# Altium schematic symbol library ConnectorsSymbol.SchLib: 19 symbols
Pins are listed as number, name and electrical type; pins without a type are passive.

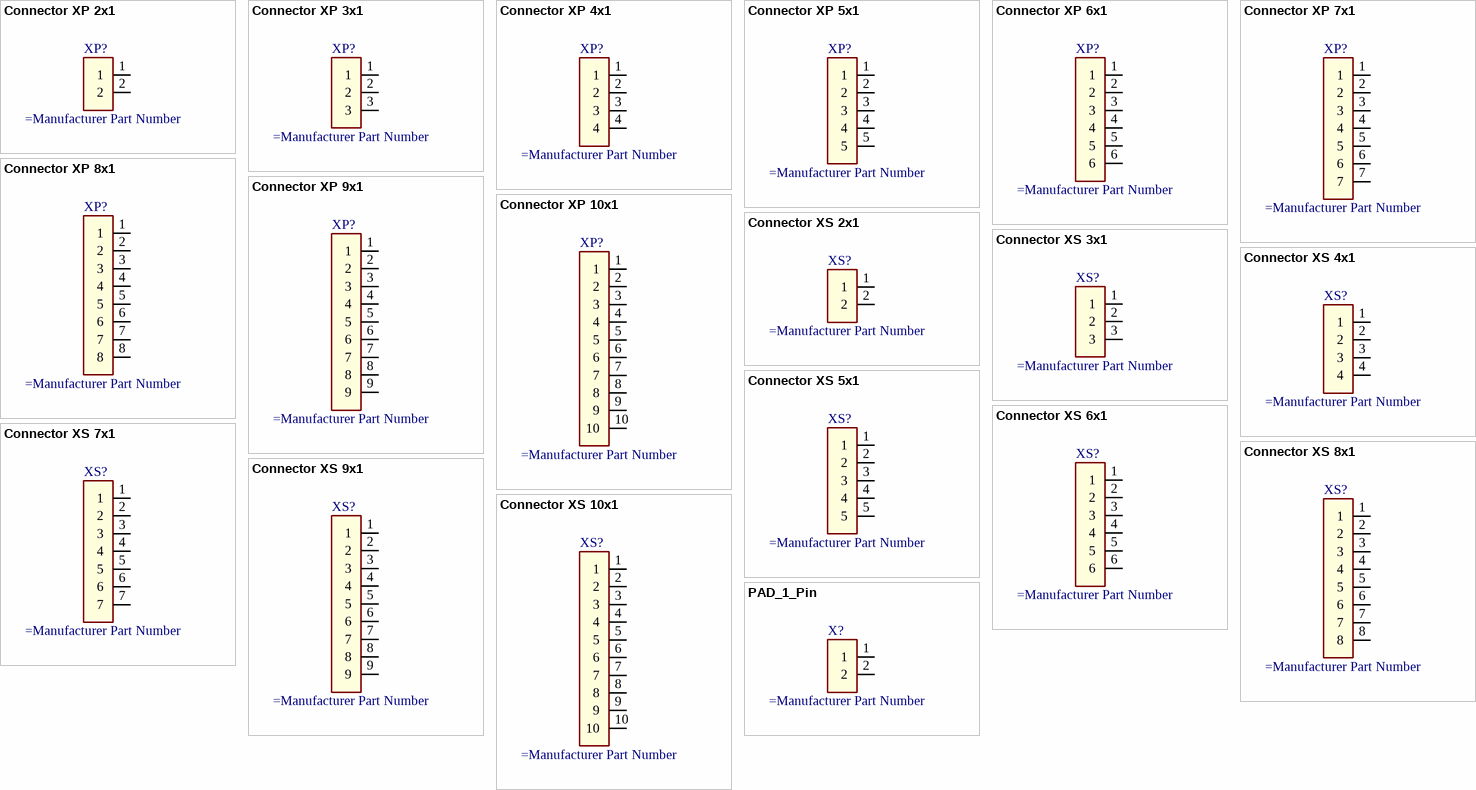
[diagram p0: symbols Connector XP 2x1 to PAD_1_Pin]

## Connector XP 2x1
designator XP?
Соединитель 2 контакта один ряд. Вилка
pins: 1, 2

## Connector XP 3x1
designator XP?
Соединитель 3 контакта один ряд. Вилка
pins: 1, 2, 3

## Connector XP 4x1
designator XP?
Соединитель 4 контакта один ряд. Вилка
pins: 1, 2, 3, 4

## Connector XP 5x1
designator XP?
Соединитель 5 контактов один ряд. Вилка
pins: 1, 2, 3, 4, 5

## Connector XP 6x1
designator XP?
Соединитель 6 контактов один ряд. Вилка
pins: 1, 2, 3, 4, 5, 6

## Connector XP 7x1
designator XP?
Соединитель 7 контактов один ряд. Вилка
pins: 1, 2, 3, 4, 5, 6, 7

## Connector XP 8x1
designator XP?
Соединитель 8 контактов один ряд. Вилка
pins: 1, 2, 3, 4, 5, 6, 7, 8

## Connector XP 9x1
designator XP?
Соединитель 9 контактов один ряд. Вилка
pins: 1, 2, 3, 4, 5, 6, 7, 8, 9

## Connector XP 10x1
designator XP?
Соединитель 10 контактов один ряд. Вилка
pins: 1, 2, 3, 4, 5, 6, 7, 8, 9, 10

## Connector XS 2x1
designator XS?
Соединитель 2 контакта один ряд. Розетка
pins: 1, 2

## Connector XS 3x1
designator XS?
Соединитель 3 контакта один ряд. Розетка
pins: 1, 2, 3

## Connector XS 4x1
designator XS?
Соединитель 4 контакта один ряд. розетка
pins: 1, 2, 3, 4

## Connector XS 5x1
designator XS?
Соединитель 5 контактов один ряд. Розетка
pins: 1, 2, 3, 4, 5

## Connector XS 6x1
designator XS?
Соединитель 6 контактов один ряд. Розетка
pins: 1, 2, 3, 4, 5, 6

## Connector XS 7x1
designator XS?
Соединитель 7 контактов один ряд. Розетка
pins: 1, 2, 3, 4, 5, 6, 7

## Connector XS 8x1
designator XS?
Соединитель 8 контактов один ряд. Розетка
pins: 1, 2, 3, 4, 5, 6, 7, 8

## Connector XS 9x1
designator XS?
Соединитель 9 контактов один ряд. Розетка
pins: 1, 2, 3, 4, 5, 6, 7, 8, 9

## Connector XS 10x1
designator XS?
Соединитель 10 контактов один ряд. Розетка
pins: 1, 2, 3, 4, 5, 6, 7, 8, 9, 10

## PAD_1_Pin
designator X?
1 контакт
pins: 1, 2